# Altium integrated library Lumberg Power Supply.IntLib: 2 symbols
Pins are listed as number, name and electrical type; pins without a type are passive.

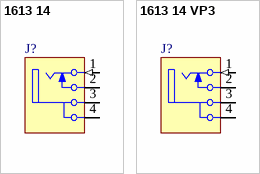
[diagram p0: symbols 1613 14 to 1613 14 VP3]

## 1613 14
designator J?
Power supply chassis socket, SM, Right Angle, with break contacts, 24V DC, 3.5A; PCB_Layout: Complies with manufacturer's recommendation.; Published: 26-Sep-2008; DatasheetVersion: Mar-2007; PackageVersion: Mar-2007; PackageReference: 1613_14; Publisher: Altium Limited; PackageDescription: Low Power Supply Socket, SM, Right Angle, Ø6.5mm Opening, Ø2mm Pin; ComponentLink1Description: Manufacturer Link; ComponentLink1URL: http://www.lumberg.com/; ComponentLink2Description: Datasheet; ComponentLink2URL: http://www.lumberg.com/Produkte/PDFs/1613_14.pdf
footprint 1613_14 (Connector; Low Power Socket, SM, Right Angle, Body 14.8 x 9 x 11 mm (LxWxH))
pins: 1 T (in) "Tip/Left Channel/(+)", 2 TN "Tip Normal (Break Contact)", 3 S (power) "Sleeve (Ground)", 4 S (power) "Sleeve (Ground)"

## 1613 14 VP3
designator J?
Power supply chassis socket, SM, Right Angle, with break contacts, 24V DC, 3.5A; Reel; PCB_Layout: Complies with manufacturer's recommendation.; Published: 26-Sep-2008; DatasheetVersion: Mar-2007; PackageVersion: Mar-2007; PackageReference: 1613_14; Publisher: Altium Limited; PackageDescription: Low Power Supply Socket, SM, Right Angle, Ø6.5mm Opening, Ø2mm Pin; ComponentLink1Description: Manufacturer Link; ComponentLink1URL: http://www.lumberg.com/; ComponentLink2Description: Datasheet; ComponentLink2URL: http://www.lumberg.com/Produkte/PDFs/1613_14.pdf
footprint 1613_14 (Connector; Low Power Socket, SM, Right Angle, Body 14.8 x 9 x 11 mm (LxWxH))
pins: 1 T (in) "Tip/Left Channel/(+)", 2 TN "Tip Normal (Break Contact)", 3 S (power) "Sleeve (Ground)", 4 S (power) "Sleeve (Ground)"